# EAGLE library part RF5110G (library OSSI)
RF5110G 3V GSM RF Power Amplifirer +36dBm Output Power at 3.5V
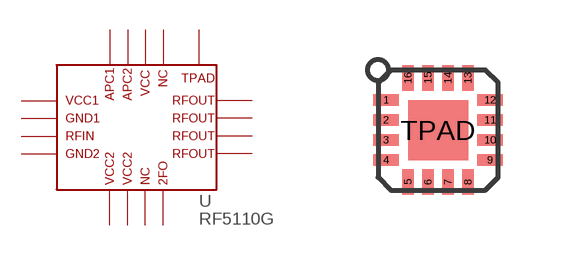
[diagram p11: symbol with the pads of RF5110G; footprint RF5110G]

Designator prefix U

## RF5110G  [RF5110G]
1  P$1
2  P$2
3  P$3
4  P$4
5  P$5
6  P$6
7  P$7
8  P$8
9  P$9
10  P$10
11  P$11
12  P$12
13  P$13
14  P$14
15  P$15
16  P$16
TPAD  P$17

## Footprint RF5110G (pad centres in mm)
smd 0.64 x 0.28: 1 -1.3,0.75; 2 -1.3,0.25; 3 -1.3,-0.25; 4 -1.3,-0.75; 9 1.3,-0.75; 10 1.3,-0.25; 11 1.3,0.25; 12 1.3,0.75
smd 0.28 x 0.64: 5 -0.75,-1.3; 6 -0.25,-1.3; 7 0.25,-1.3; 8 0.75,-1.3; 13 0.75,1.3; 14 0.25,1.3; 15 -0.25,1.3; 16 -0.75,1.3
smd 1.5 x 1.5: TPAD 0,0